# Altium schematic symbol library Discretes.SchLib: 15 symbols
Pins are listed as number, name and electrical type; pins without a type are passive.

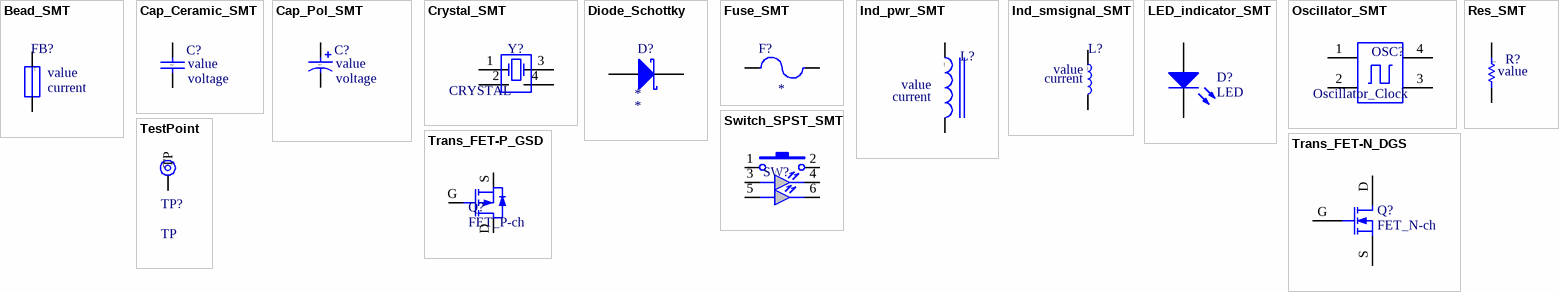
[diagram p0: symbols Bead_SMT to Trans_FET-P_GSD]

## Bead_SMT
designator FB?, comment Bead  (value not drawn)
Ferrite Bead, xxx ohm @ xxx Hz, xxx amps, package; Special: special; Manufacturer: *; Part Number: *; PackageDescription: *; HelpURL: *; Frequency: *; ComponentLink1URL: *; ComponentLink1Description: *; Value: value; Current: current
footprint FB0603
footprint fb1206
footprint fb0805
pins: 1, 2
text: SMT

## Cap_Ceramic_SMT
designator C?, comment Cap_Ceramic  (value not drawn)
Cap, ceramic, x.xxuF, xxV, tolerance, package; Special: special; Manufacturer: *; Part Number: *; Comments: *; HelpURL: *; PackageDescription: *; ComponentLink1URL: *; ComponentLink1Description: *; Value: value; Voltage: voltage
footprint C0402
simulation model CAP (Capacitor)
signal-integrity model Cap
footprint c0805
footprint c0603
footprint c0805-1mm
footprint c1206
footprint c1210
footprint c1206-1p5mm
pins: 1, 2
text: SMT

## Cap_Pol_SMT
designator C?, comment Cap_Pol  (value not drawn)
Cap, polar, x.xxuF, xxV, tolerance, package; Special: special; Manufacturer: *; Part Number: *; PackageDescription: *; Comments: *; HelpURL: *; ComponentLink1URL: *; ComponentLink1Description: *; Value: value; Voltage: voltage
footprint c3528-21
simulation model CAP (Capacitor)
signal-integrity model Cap
footprint c3216-16
footprint c3528-19
footprint c6032-25
footprint c7343-31
footprint c7343-169h
pins: 1, 2
text: SMT

## Crystal_SMT
designator Y?, comment CRYSTAL
Crystal, SMD, XX.XMHz, XXppm, XX.XpF; PackageDescription: 4-Pin SMT Crystal, 5.2 x 3.4 mm Body; Manufacturer: *; Part Number: *; ComponentLink1Description: Supplier Link; Storage Temperature: *; Notes: *; HelpURL: *
footprint XTAL-ABM3B (SMT Crystal, 4-Leads, Body 5.2x3.4mm)
pins: 1 X1, 2 GND (power), 3 X2, 4 GND (power)

## Diode_Schottky
designator D?  (value not drawn)
Diode, schottky, x.xxA, x.xxVr, x.xxVfwd, package; PackageDescription: *; Manufacturer: *; V forward: *; V reverse: *; HelpURL: *; Notes: *; ComponentLink1URL: *; ComponentLink1Description: *; Part Number: *; Current: *
footprint do-214ba
pins: A, K

## Fuse_SMT
designator F?, comment Fuse  (value not drawn)
Fuse, x.xA, xxV, acting, package; PackageDescription: *; HelpURL: *; Manufacturer: *; Part Number: *; ComponentLink1URL: *; ComponentLink1Description: Supplier Link; Value: *
footprint r1206
pins: 1, 2

## Ind_pwr_SMT
designator L?, comment Ind_pwr  (value not drawn)
Inductor, Power, x.xxuH, x.xxA, x.xx DC ohm, package; Special: special; Manufacturer: *; Part Number: *; HelpURL: *; PackageDescription: *; DC Resistance: *; Notes: *; ComponentLink1URL: *; ComponentLink1Description: *; Value: value; Current: current
simulation model INDUCTOR (Inductor)
signal-integrity model Inductor
pins: 1, 2
text: SMT

## Ind_smsignal_SMT
designator L?, comment Ind_smsignal  (value not drawn)
Inductor, x.xxuH, x.xxA, package; Special: special; Manufacturer: *; Part Number: *; Notes: *; PackageDescription: *; ComponentLink1URL: *; ComponentLink1Description: *; Value: value; Current: current
footprint L0603
simulation model INDUCTOR (Inductor)
signal-integrity model Inductor
footprint l0402
footprint l0603-hc
footprint l0805
footprint l1812-hc
pins: 1, 2
text: SMT

## LED_indicator_SMT
designator D?, comment LED
LED, color, vfwd, smt package; PackageReference: SMT; PackageDescription: SMT; Manufacturer: *; Part Number: *; Color: *; Notes: *; ComponentLink1URL: *; ComponentLink1Description: Supplier Link; Vf typical: *
footprint led-0603
pins: A, K

## Oscillator_SMT
designator OSC?, comment Oscillator_Clock
Oscillator, SMD, XX.XMHz, XXppm, X.XXV; PackageDescription: 4 pin SMD; Manufacturer: *; Part Number: *; ComponentLink1Description: Supplier Link; Storage Temperature: *; Notes: *; HelpURL: *
footprint OSC-Fox_HC53 (SMT OSC, 4-Leads, Body 5.2x3.4mm)
pins: 1 EN, 2 GND (power), 3 OUT, 4 VDD (power)

## Res_SMT
designator R?, comment Resistor  (value not drawn)
Resistor, xxx ohm, xxx watt, tolerance %, package; Special: special; Wattage: wattage; Manufacturer: *; Part Number: *; Notes: *; PackageDescription: *; HelpURL: *; Tolerance: *; ComponentLink1URL: *; ComponentLink1Description: *; Value: value
simulation model RESISTOR (Resistor)
signal-integrity model Res
footprint r0603
footprint r0402
footprint r0805
footprint r1206
footprint r1210
footprint r1812
footprint r2512
pins: 1, 2
text: SMT

## Switch_SPST_SMT
designator SW?, comment TL3200AF  (value not drawn)
Switch, Tact, SPST, w dual LED; Manufacturer: E-Switch; Part Number: TL3200AF160GRQ; Life Cycles: 30000 cycles; Force: 160g; PackageReference: SMT; ComponentLink1URL: http://www.digikey.com/product-detail/en/TL3200AF160GRQ/EG4409CT-ND/1556584; ComponentLink1Description: Supplier Link
pins: 1, 2, 3 LED1+, 4 LED1-, 5 LED2+, 6 LED2-

## TestPoint
designator TP?, comment TP
Test Point, x.xxmm; Size: *
footprint testpoint-5006
pins: 1 TP

## Trans_FET-N_DGS
designator Q?, comment FET_N-ch
Transistor, N-CH MOSFET, xx.xV, RDS on, x.xxA; PackageReference: E3; PackageDescription: *; Manufacturer: *; Part Number: *; HelpURL: *; Notes: *; ComponentLink1URL: *; ComponentLink1Description: *
footprint sot23_d-gs
pins: D, G, S

## Trans_FET-P_GSD
designator Q?, comment FET_P-ch
Transistor, P-CH MOSFET, xx.xV, RDS on, x.xxA; PackageReference: E3; PackageDescription: *; Manufacturer: *; Part Number: *; HelpURL: *; Notes: *; ComponentLink1URL: *; ComponentLink1Description: *
footprint SOT323_d-gs_SC-70 (SOT323)
footprint Trans_SC-89_GSD (Transistor P-Channel SC89 Package)
pins: D, G, S